# Altium schematic symbol library MAX86141ENP+T.SchLib: 1 symbol
Pins are listed as number, name and electrical type; pins without a type are passive.

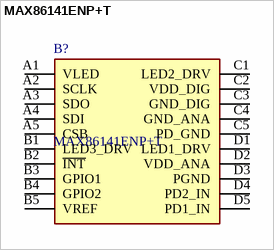
[diagram p0: symbol MAX86141ENP+T]

## MAX86141ENP+T
designator B?
Biometric Sensors Optical AFE Optimized for HR on Wrist Applications.; Manufacturer_Name: Analog Devices; Geometry.Height: 0.5mm; Mouser Part Number: 700-MAX86141ENP+T; Mouser Price/Stock: https://www.mouser.co.uk/ProductDetail/Maxim-Integrated/MAX86141ENP%2bT?qs=1mbolxNpo8eXAkUx4%252BsdhQ%3D%3D; Manufacturer_Part_Number: MAX86141ENP+T; Datasheet Link: https://ms.componentsearchengine.com/Datasheets/2/MAX86141ENP+T.pdf
footprint BGA20C40P5X4_205X185X50
pins: A1 VLED, A2 SCLK, A3 SDO, A4 SDI, A5 CSB, B1 LED3_DRV, B2 ~{INT}, B3 GPIO1, B4 GPIO2, B5 VREF, C1 LED2_DRV, C2 VDD_DIG, C3 GND_DIG, C4 GND_ANA, C5 PD_GND, D1 LED1_DRV, D2 VDD_ANA, D3 PGND, D4 PD2_IN, D5 PD1_IN